# Altium footprint library HEADER_1x5_100mil_NP.PcbLib: 1 footprints
Each footprint in its own frame and in the unit in brackets; x right, y up, seen from the top. Pads: shape width x height; smd on the part's side, far side on the other; paste and mask are expansions set on the pad; w line width, h text height; cw(c..) or ccw(c..) is an arc to the next point about the centre after c.
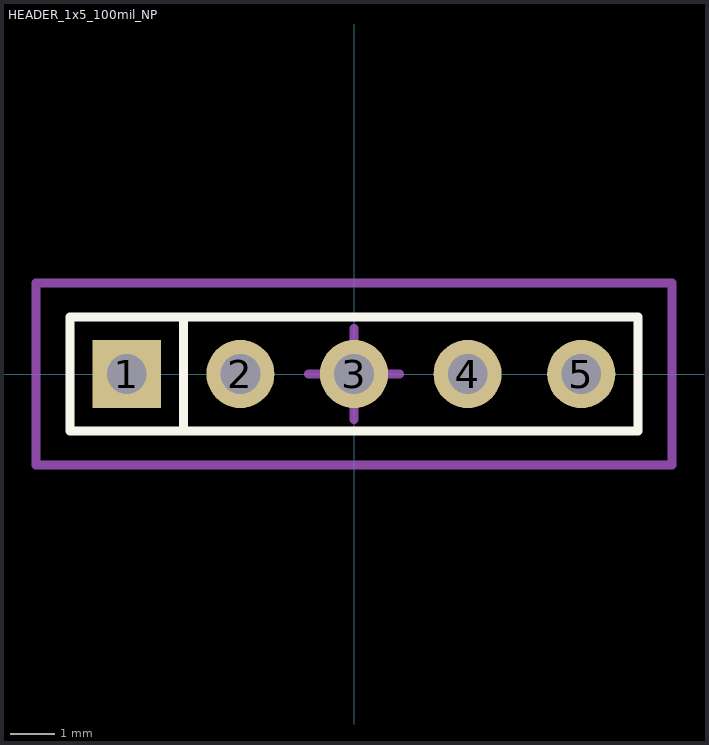
[diagram p0: the footprint, top view; thin cyan lines are the x and y axes]

## HEADER_1x5_100mil_NP [mil]
pads (5):
  rect 60x60 hole 35: 1(-200,0)
  round 60 hole 35: 2(-100,0) 3(0,0) 4(100,0) 5(200,0)
Top Overlay:
  lines w7.87: -150,-50 -150,50 ; -250,-50 250,-50 250,50 -250,50 -250,-50
Mechanical 15:
  lines w7.87: -40,0 40,0 ; 0,-40 0,40 ; -280,-80 280,-80 280,80 -280,80 -280,-80